# Altium footprint library DCDC_Module_Converter_Pcb.PcbLib: 5 footprints
Each footprint in its own frame and in the unit in brackets; x right, y up, seen from the top. Pads: shape width x height; smd on the part's side, far side on the other; paste and mask are expansions set on the pad; w line width, h text height; cw(c..) or ccw(c..) is an arc to the next point about the centre after c.
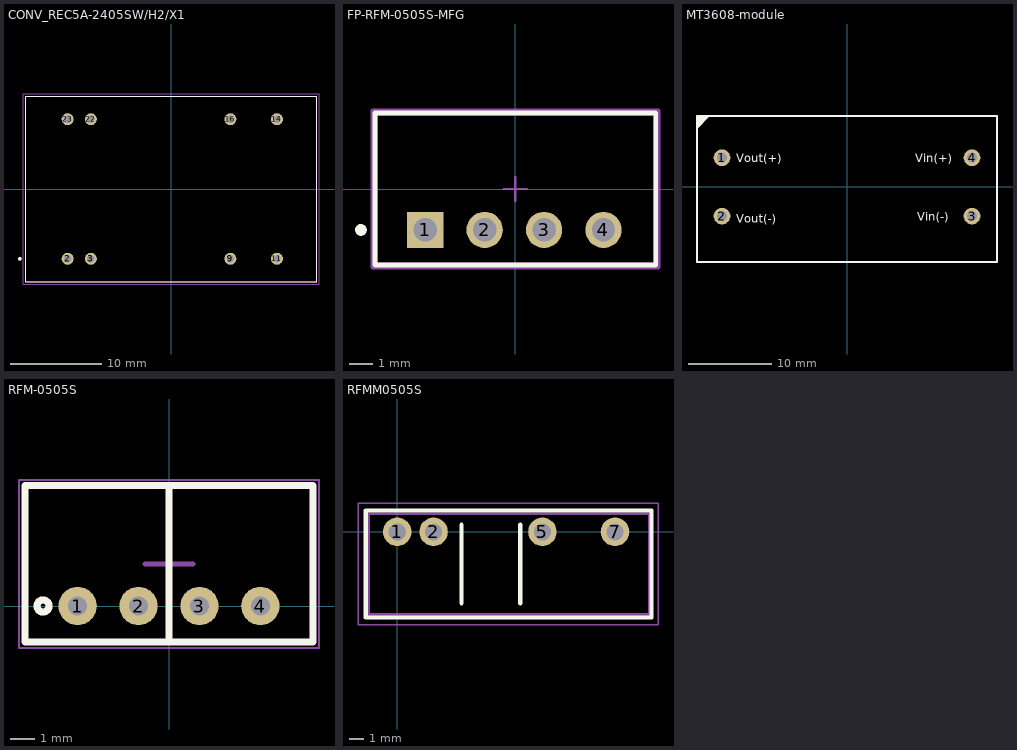
[diagram p0: the footprints below, top view; thin cyan lines are the x and y axes]

## CONV_REC5A-2405SW/H2/X1 [mm]
pads (8):
  round 1.308 hole 0.8: 2(-11.3,-7.62) 3(-8.76,-7.62) 9(6.48,-7.62) 11(11.56,-7.62) 14(11.56,7.62) 16(6.48,7.62) 22(-8.76,7.62) 23(-11.3,7.62)
Top Overlay:
  circle w0.2: c-16.51,-7.62 r0.1
  lines w0.127: -15.9,-10.15 15.9,-10.15 15.9,10.15 -15.9,10.15 -15.9,-10.15
Mechanical 13:
  circle w0.2: c-16.51,-7.62 r0.1
  lines w0.127: -15.9,-10.15 15.9,-10.15 15.9,10.15 -15.9,10.15 -15.9,-10.15
Mechanical 15:
  lines w0.05: -16.15,-10.4 16.15,-10.4 16.15,10.4 -16.15,10.4 -16.15,-10.4
3D body "REC3A-2405SW-H2-X1--3DModel-STEP-1.STEP": height 10.41, standoff -3.6, extent -15.8,-10.15 16,10.15

## FP-RFM-0505S-MFG [mm]
pads (4):
  rect 1.55x1.55 hole 1 paste-1000 mask+0: 1(-3.85,-1.75)
  round 1.55 hole 1 paste-1000 mask+0: 2(-1.31,-1.75) 3(1.23,-1.75) 4(3.77,-1.75)
Top Overlay:
  circle w0.25: c-6.6,-1.75 r0.125
  lines w0.2: -6,-3.25 6,-3.25 6,3.25 -6,3.25 -6,-3.25
Top 3D Body:
  lines w0.2: -6,-3.25 6,-3.25 6,3.25 -6,3.25 -6,-3.25
Top Courtyard:
  lines w0.2: -6.1,-3.35 6.1,-3.35 6.1,3.35 -6.1,3.35 -6.1,-3.35
Top Assembly:
  lines w0.2: -6.1,-3.35 6.1,-3.35 6.1,3.35 -6.1,3.35 -6.1,-3.35
  text ".Designator" at 0,0.188 h1
Top Component Center:
  lines w0.1: -0.5,0 0.5,0 ; 0,-0.5 0,0.5
3D body "IC_Recom_Power_RFM-0505S_eec.STEP": height 0.25, standoff 0, extent -6.1,-3.35 6.1,3.35

## MT3608-module [mm]
pads (4):
  round 2 hole 1.2: 1(-15,3.5) 2(-15,-3.5) 3(15,-3.5) 4(15,3.5)
Top Overlay:
  region: -18,8.5 -16.5,8.5 -18,7
  lines w0.2: -18,-9 -18,8.5 0,8.5 18,8.5 18,-9 -18,-9
  text "Vin(+)" at 8.2,2.95 h1
  text "Vin(-)" at 8.45,-4.05 h1
  text "Vout(+)" at -13.3,2.95 h1
  text "Vout(-)" at -13.3,-4.3 h1
Mechanical 29:
  region: -18,8.5 -16.5,8.5 -18,7
  lines w0.2: -18,-9 -18,8.5 0,8.5 18,8.5 18,-9 -18,-9
3D body "MT3608-Module.STEP": height 7.5, standoff -0.94, extent -18.5,-8.75 18.5,8.65

## RFM-0505S [mm]
pads (4):
  round 1.6 hole 0.8: 1(-3.81,0) 2(-1.27,0) 3(1.27,0) 4(3.81,0)
Top Overlay:
  circle w0.3: c-5.25,0 r0.25
  lines w0.3: 0,-1.5 0,5 ; -6,-1.5 -6,5.025 6,5.025 6,-1.5 -6,-1.5
Mechanical 13:
  text ".Designator" at -3.75,2.282 h1.5
Mechanical 15:
  lines w0.1: -6.25,-1.75 6.25,-1.75 6.25,5.25 -6.25,5.25 -6.25,-1.75
  lines w0.2: -1,1.75 1,1.75 ; 0,0.75 0,2.75
3D body "IC_Recom_Power_RFM-0505S_eec.STEP": height 0.25, standoff 0, extent -6.075,-1.625 6.125,5.075

## RFMM0505S [mm]
pads (4):
  round 2 hole 1.2: 1(0,0) 2(2.54,0) 5(10.16,0) 7(15.24,0)
Top Overlay:
  lines w0.3: 4.5,-5 4.5,0.5 ; 8.6,-5 8.6,0.5 ; -2.2,-6 17.8,-6 17.8,1.5 -2.2,1.5 -2.2,-6
Mechanical 13:
  lines w0.2: -2,-5.78 -2,1.27 17.65,1.27 17.65,-5.78 -2,-5.78
  text ".designator" at -1.527,-5.572 h1.5
Mechanical 15:
  lines w0.1: -2.75,-6.5 -2.75,2 18.25,2 18.25,-6.5 -2.75,-6.5
3D body "RFMM-0505S.stp": height 10.1, standoff -4.2, extent -1.995,-5.745 17.655,1.305